# Altium footprint library L865_V4_PCB.PcbLib: 20 footprints (part 1 of 2)
Each footprint in its own frame and in the unit in brackets; x right, y up, seen from the top. Pads: shape width x height; smd on the part's side, far side on the other; paste and mask are expansions set on the pad; w line width, h text height; cw(c..) or ccw(c..) is an arc to the next point about the centre after c.
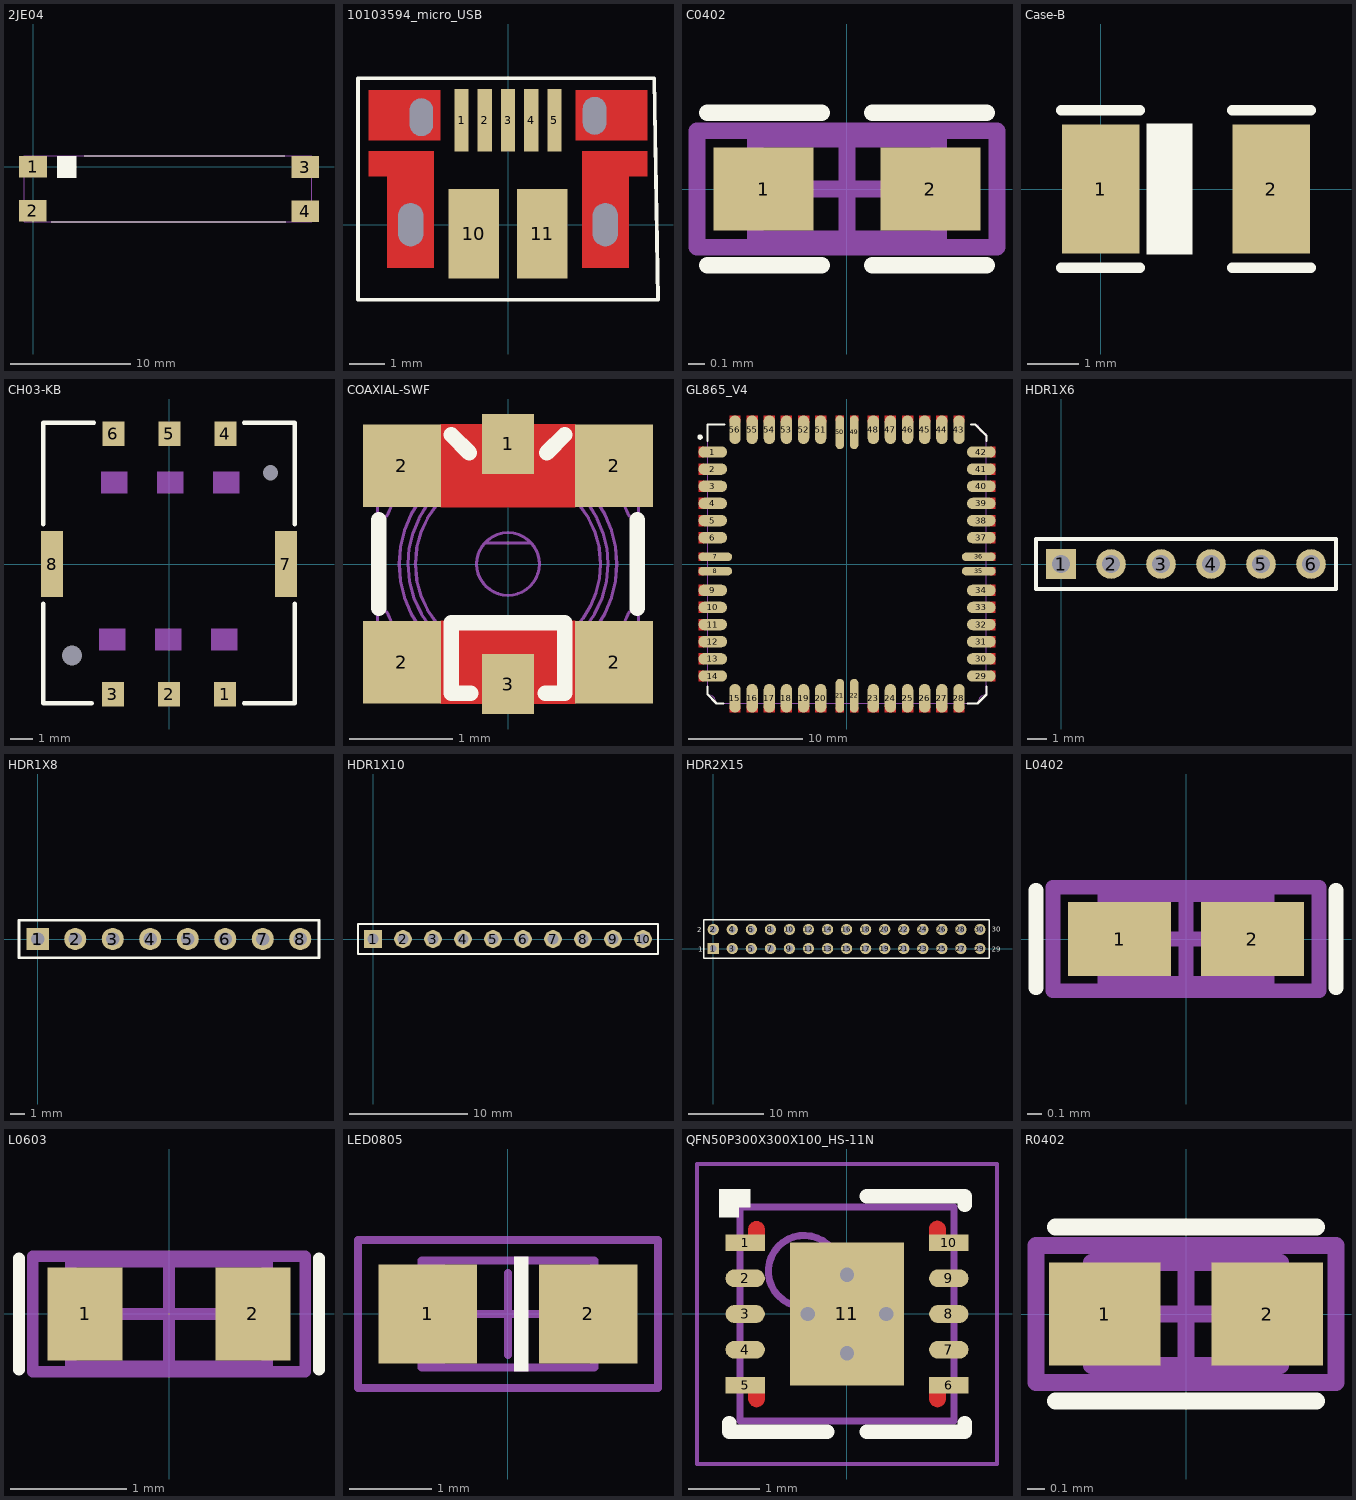
[diagram p0: the footprints below, top view; thin cyan lines are the x and y axes]

## 2JE04 [mm]
height 4.4
pads (4):
  rect 2.3x1.8 smd: 1(0,0) 2(-0.02,-3.69) 3(22.71,-0.03) 4(22.71,-3.73)
Top Overlay:
  rectangle: 2.01,-0.93 3.62,0.88
  lines w0.1: 1.5,-4.61 21.1,-4.61 ; 4.29,0.89 21.01,0.89
Mechanical 1:
  lines w0.1: -0.74,-4.61 -0.74,0.89 23.26,0.89 23.26,-4.61 -0.74,-4.61
3D body: height 4.4, standoff 0, extent -0.74,-4.61 23.26,0.89

## 10103594_micro_USB [mm]
height 2.99
pads (11):
  rect 0.4x1.75 smd: 1(-1.3,2.93) 2(-0.65,2.93) 3(0,2.93) 4(0.65,2.93) 5(1.3,2.93)
  round 0 hole 1.05 slot 0.65 at 0 deg: 6(-2.425,3.01) 7(2.425,3.05)
  round 0 hole 1.2 slot 0.7 at 0 deg: 8(-2.725,0) 9(2.725,0)
  rect 1.425x2.5 smd: 10(-0.96,-0.25) 11(0.96,-0.25)
Top Layer:
  region: -2.075,-1.2 -2.075,2.05 -3.905,2.05 -3.905,1.35 -3.375,1.35 -3.375,-1.2
  region: 2.075,-1.2 2.075,2.05 3.905,2.05 3.905,1.35 3.375,1.35 3.375,-1.2
  region: 3.9,2.36 1.9,2.36 1.9,3.76 3.9,3.76
  region: -3.9,3.76 -1.9,3.76 -1.9,2.36 -3.9,2.36
Top Overlay:
  lines w0.1: -4.2,-2.1 4.2,-2.1 4.097,4.1 -4.2,4.1 -4.2,-2.1
3D body "User Library-10103594.STEP": height 2.9, standoff -0.7, extent -4.03,-2.809 4.01,3.224

## C0402 [mm] "Chip Capacitor, 2-Leads, Body 1,0x0,5mm, IPC High Density"
height 0.6
pads (2):
  rect 0.6x0.5 smd: 1(-0.5,0) 2(0.5,0)
Top Overlay:
  lines w0.1: -0.838,-0.457 -0.152,-0.457 ; -0.838,0.457 -0.152,0.457 ; 0.152,-0.457 0.838,-0.457 ; 0.152,0.457 0.838,0.457
Mechanical 13:
  lines w0.1: -0.55,-0.3 0.55,-0.3 0.55,0.3 -0.55,0.3 -0.55,-0.3
Mechanical 15:
  lines w0.1: -0.3,0 0.3,0 ; 0,-0.3 0,0.3 ; -0.9,-0.35 0.9,-0.35 0.9,0.35 -0.9,0.35 -0.9,-0.35
3D body "SW3dPS-0402 SMD Capacitor.STEP": height 0.2, standoff 0, extent -0.5,-0.244 0.5,0.356

## Case-B [mm] "Tantalum capacitors standart case B"
height 2
pads (2):
  rect 1.5x2.5 smd: 1(0,0) 2(3.302,0)
Top Overlay:
  rectangle: 0.889,-1.27 1.778,1.27
  lines w0.2: -0.762,-1.524 0.762,-1.524 ; -0.762,1.524 0.762,1.524 ; 2.54,-1.524 4.064,-1.524 ; 2.54,1.524 4.064,1.524
3D body "Case B.STEP": height 2.14, standoff 0.04, extent -0.194,-1.397 3.496,1.423

## CH03-KB [mm] "Nano SIM Card Connector"
height 1.35
pads (10):
  rect 1x1.1 smd: 1(2.54,-5.9) 2(0,-5.9) 3(-2.54,-5.9) 4(2.56,5.91) 5(0.02,5.91) 6(-2.52,5.91)
  rect 1x3 smd: 7(5.3,0) 8(-5.3,0)
  round 0 hole 0.9 unplated: ""(-4.4,-4.15)
  round 0 hole 0.7 unplated: ""(4.6,4.15)
Top Overlay:
  lines w0.2: -5.7,-1.8 -5.7,-6.3 -3.5,-6.3 ; -5.7,1.8 -5.7,6.2 -5.7,6.4 -3.4,6.4 ; 3.4,-6.3 5.7,-6.3 5.7,-1.8 ; 3.4,6.4 5.7,6.4 5.7,1.8
Mechanical 1:
  region: 0.57,-2.92 -0.63,-2.92 -0.63,-3.92 0.57,-3.92
  region: -1.97,-2.92 -3.17,-2.92 -3.17,-3.92 -1.97,-3.92
  region: 3.11,-2.92 1.91,-2.92 1.91,-3.92 3.11,-3.92
  rectangle: -3.09,3.19 -1.89,4.19
  rectangle: 1.99,3.19 3.19,4.19
  rectangle: -0.55,3.19 0.65,4.19
3D body "CH03-KB060-HAR_rev1.1.STEP": height 1.35, standoff -0.4, extent -5.43,-6.1 5.41,6.1

## COAXIAL-SWF [mm]
pads (6):
  rect 0.5x0.58 smd: 1(0,1.16) 3(0,-1.16)
  rect 0.75x0.8 smd: 2(-1.025,-0.95) 2(-1.025,0.95) 2(1.025,-0.95) 2(1.025,0.95)
Top Layer:
  pour cut-out: 0.65,-0.55 -0.65,-0.55 -0.65,-1.35 0.65,-1.35
  pour cut-out: -0.65,0.55 0.65,0.55 0.65,1.35 -0.65,1.35
Top Overlay:
  lines w0.15: -1.25,-0.43 -1.25,0.43 ; -0.55,1.25 -0.375,1.075 ; -0.36,-1.25 -0.55,-1.25 -0.55,-0.57 0.55,-0.57 0.55,-1.25 0.36,-1.25 ; 0.375,1.075 0.55,1.25 ; 1.25,-0.43 1.25,0.43
Mechanical 7:
  drawing of 206 lines, arcs and shapes, not listed
  text ".Designator" at -0.236,-0.726 h0.7
3D body: height 1.55, standoff 1.25, extent -1.05,-1.05 1.05,1.05
3D body: height 1.25, standoff 0.95, extent -1.05,-1.049 1.05,1.05
3D body: height 0.9, standoff 0.6, extent -1.05,-1.049 1.05,1.05
3D body: height 0.55, standoff 0.1, extent -1.262,-1.252 1.262,1.253
3D body: height 0.6, standoff 0, extent -1.262,0.655 -0.757,1.248
3D body: height 0.6, standoff 0, extent -1.262,-1.25 -0.757,-0.649
3D body: height 0.6, standoff 0, extent 0.757,-1.246 1.262,-0.653
3D body: height 0.6, standoff 0, extent 0.757,0.655 1.262,1.249
3D body: height 0.95, standoff 0.75, extent -1,-0.999 1,1.001
3D body: height 0.75, standoff 0.6, extent -1.05,-1.049 1.05,1.05
3D body: height 1.4, standoff 0.6, extent -0.9,-0.9 0.9,0.901
3D body: height 0.6, standoff 0.55, extent -1.262,-1.248 1.262,1.251
3D body: height 0.15, standoff 0, extent -0.227,0.899 0.227,1.299
3D body: height 0.15, standoff 0, extent -0.227,-1.301 0.227,-0.758

## GL865_V4 [mm]
pads (56):
  oval 2.5x1 smd paste+0 mask+0.05: 1(-11.75,9.8) 2(-11.75,8.3) 3(-11.75,6.8) 4(-11.75,5.3) 5(-11.75,3.8) 6(-11.75,2.3) 9(-11.75,-2.3) 10(-11.75,-3.8) 11(-11.75,-5.3) 12(-11.75,-6.8) 13(-11.75,-8.3) 14(-11.75,-9.8) 29(11.75,-9.8) 30(11.75,-8.3) 31(11.75,-6.8) 32(11.75,-5.3) 33(11.75,-3.8) 34(11.75,-2.3) 37(11.75,2.3) 38(11.75,3.8) 39(11.75,5.3) 40(11.75,6.8) 41(11.75,8.3) 42(11.75,9.8)
  oval 2.95x0.75 smd paste+0 mask+0.05: 7(-11.525,0.625) 8(-11.525,-0.625) 35(11.525,-0.625) 36(11.525,0.625)
  oval 1x2.5 smd paste+0 mask+0.05: 15(-9.8,-11.75) 16(-8.3,-11.75) 17(-6.8,-11.75) 18(-5.3,-11.75) 19(-3.8,-11.75) 20(-2.3,-11.75) 23(2.3,-11.75) 24(3.8,-11.75) 25(5.3,-11.75) 26(6.8,-11.75) 27(8.3,-11.75) 28(9.8,-11.75) 43(9.8,11.75) 44(8.3,11.75) 45(6.8,11.75) 46(5.3,11.75) 47(3.8,11.75) 48(2.3,11.75) 51(-2.3,11.75) 52(-3.8,11.75) 53(-5.3,11.75) 54(-6.8,11.75) 55(-8.3,11.75) 56(-9.8,11.75)
  oval 0.75x2.95 smd paste+0 mask+0.05: 21(-0.625,-11.525) 22(0.625,-11.525) 49(0.625,11.525) 50(-0.625,11.525)
Top Layer:
  rectangle: 1.8,-13 2.8,-12.375
  rectangle: 4.8,-13 5.8,-12.375
  rectangle: 7.8,-13 8.8,-12.375
  rectangle: 9.3,-13 10.3,-12.375
  rectangle: 6.3,-13 7.3,-12.375
  rectangle: 3.3,-13 4.3,-12.375
  rectangle: -10.3,-13 -9.3,-12.375
  rectangle: -7.3,-13 -6.3,-12.375
  rectangle: -4.3,-13 -3.3,-12.375
  rectangle: -2.8,-13 -1.8,-12.375
  rectangle: -5.8,-13 -4.8,-12.375
  rectangle: -8.8,-13 -7.8,-12.375
  rectangle: 1.8,12.375 2.8,13
  rectangle: 4.8,12.375 5.8,13
  rectangle: 7.8,12.375 8.8,13
  rectangle: 9.3,12.375 10.3,13
  rectangle: 6.3,12.375 7.3,13
  rectangle: 3.3,12.375 4.3,13
  rectangle: -8.8,12.375 -7.8,13
  rectangle: -5.8,12.375 -4.8,13
  rectangle: -2.8,12.375 -1.8,13
  rectangle: -4.3,12.375 -3.3,13
  rectangle: -7.3,12.375 -6.3,13
  rectangle: -10.3,12.375 -9.3,13
  rectangle: 12.5,-2.8 13,-1.8
  rectangle: 12.5,-4.3 13,-3.3
  rectangle: 12.5,-7.3 13,-6.3
  rectangle: 12.5,-5.8 13,-4.8
  rectangle: 12.5,-10.3 13,-9.3
  rectangle: 12.5,-8.8 13,-7.8
  rectangle: 12.5,9.3 13,10.3
  rectangle: 12.5,7.8 13,8.8
  rectangle: 12.5,4.8 13,5.8
  rectangle: 12.5,6.3 13,7.3
  rectangle: 12.5,1.8 13,2.8
  rectangle: 12.5,3.3 13,4.3
  rectangle: -13,-2.8 -12.5,-1.8
  rectangle: -13,-4.3 -12.5,-3.3
  rectangle: -13,-7.3 -12.5,-6.3
  rectangle: -13,-5.8 -12.5,-4.8
  rectangle: -13,-10.3 -12.5,-9.3
  rectangle: -13,-8.8 -12.5,-7.8
  rectangle: -13,3.3 -12.5,4.3
  rectangle: -13,1.8 -12.5,2.8
  rectangle: -13,6.3 -12.5,7.3
  rectangle: -13,4.8 -12.5,5.8
  rectangle: -13,7.8 -12.5,8.8
  rectangle: -13,9.3 -12.5,10.3
  rectangle: 12.5,-1 13,-0.25
  rectangle: 12.5,0.25 13,1
  region: -0.25,12.5 -0.25,13 -1,13 -1,12.5
  region: 1,12.5 1,13 0.25,13 0.25,12.5
  region: -12.5,-0.25 -13,-0.25 -13,-1 -12.5,-1
  region: -12.5,1 -13,1 -13,0.25 -12.5,0.25
  region: 0.25,-12.5 0.25,-13 1,-13 1,-12.5
  region: -1,-12.5 -1,-13 -0.25,-13 -0.25,-12.5
Top Overlay:
  circle w0.254: c-12.86,11.11 r0.114
  lines w0.2: -12.21,-10.75 -12.21,-11.4 -11.41,-12.2 -10.82,-12.2 ; -12.2,10.77 -12.2,12.2 -10.72,12.2 ; 10.54,-12.2 11.43,-12.2 12.2,-11.43 12.2,-10.75 ; 10.87,12.2 11.23,12.2 12.2,11.23 12.2,10.77
Mechanical 1:
  lines w0.1: -12.2,12.2 -12.2,-11.45 cw(c-12.2,-12.2) -11.45,-12.2 11.45,-12.2 cw(c12.2,-12.2) 12.2,-11.45 12.2,11.45 cw(c12.2,12.2) 11.45,12.2
3D body "User Library-Telit  GL865-DUAL V3.STEP": height 2.56, standoff 0, extent -12.2,-12.2 12.2,12.2

## HDR1X6 [mm] "Connector; Header; 6 Position"
pads (6):
  rect 1.5x1.5 hole 0.9: 1(0,0)
  round 1.5 hole 0.9: 2(2.54,0) 3(5.08,0) 4(7.62,0) 5(10.16,0) 6(12.7,0)
Top Overlay:
  lines w0.2: -1.27,-1.27 -1.27,1.27 13.97,1.27 13.97,-1.27 -1.27,-1.27
3D body "User Library-SIL_Socket06_.STEP": height 8.5, standoff -10.46, extent -1.27,-1.27 13.97,1.27

## HDR1X8 [mm] "Connector; Header; 8 Position"
pads (8):
  rect 1.5x1.5 hole 0.9: 1(0,0)
  round 1.5 hole 0.9: 2(2.54,0) 3(5.08,0) 4(7.62,0) 5(10.16,0) 6(12.7,0) 7(15.24,0) 8(17.78,0)
Top Overlay:
  lines w0.2: -1.27,-1.27 -1.27,1.27 19.05,1.27 19.05,-1.27 -1.27,-1.27
3D body "User Library-SIL_Socket08_.STEP": height 8.5, standoff -10.46, extent -1.27,-1.27 19.05,1.27

## HDR1X10 [mm] "Connector; Header; 10 Position"
pads (10):
  rect 1.5x1.5 hole 0.9: 1(0,0)
  round 1.5 hole 0.9: 2(2.54,0) 3(5.08,0) 4(7.62,0) 5(10.16,0) 6(12.7,0) 7(15.24,0) 8(17.78,0) 9(20.32,0) 10(22.86,0)
Top Overlay:
  lines w0.2: -1.27,-1.27 24.13,-1.27 24.13,1.27 0.635,1.27 -1.27,1.27 -1.27,-1.27
3D body "User Library-SIL_Socket10_.STEP": height 8.5, standoff -10.46, extent -1.27,-1.27 24.13,1.27

## HDR2X15 [mm] "Connector; Header; 15x2 Position"
pads (30):
  rect 1.5x1.5 hole 0.9: 1(0,0)
  round 1.5 hole 0.9: 2(0,2.54) 3(2.54,0) 4(2.54,2.54) 5(5.08,0) 6(5.08,2.54) 7(7.62,0) 8(7.62,2.54) 9(10.16,0) 10(10.16,2.54) 11(12.7,0) 12(12.7,2.54) 13(15.24,0) 14(15.24,2.54) 15(17.78,0) 16(17.78,2.54) 17(20.32,0) 18(20.32,2.54) 19(22.86,0) 20(22.86,2.54) 21(25.4,0) 22(25.4,2.54) 23(27.94,0) 24(27.94,2.54) 25(30.48,0) 26(30.48,2.54) 27(33.02,0) 28(33.02,2.54) 29(35.56,0) 30(35.56,2.54)
Top Overlay:
  lines w0.2: -1.27,-1.27 -1.27,3.81 36.83,3.81 36.83,-1.27 -1.27,-1.27
  text "30" at 37.13,2.23 h0.7
  text "29" at 37.1,-0.42 h0.7
  text "2" at -2.165,2.153 h0.7
  text "1" at -2,-0.4 h0.7

## L0402 [mm] "Chip Inductor, 2-Leads, Body 1,0x0,5mm, IPC High Density"
height 0.6
pads (2):
  rect 0.7x0.5 smd: 1(-0.45,0) 2(0.45,0)
Top Overlay:
  lines w0.1: -1.016,-0.33 -1.016,0.33 ; 1.016,-0.33 1.016,0.33
Mechanical 13:
  lines w0.1: -0.55,-0.3 -0.55,0.3 0.55,0.3 0.55,-0.3 -0.55,-0.3
Mechanical 15:
  lines w0.1: -0.3,0 0.3,0 ; 0,-0.3 0,0.3 ; -0.9,-0.35 -0.9,0.35 0.9,0.35 0.9,-0.35 -0.9,-0.35
3D body "inductor_0402.STEP": height 0.25, standoff 0, extent -0.49,-0.25 0.51,0.25

## L0603 [mm] "Chip Inductor, 2-Leads, Body 1,6x0,8mm, IPC High Density"
height 1
pads (2):
  rect 0.65x0.8 smd: 1(-0.725,0) 2(0.725,0)
Top Overlay:
  lines w0.1: -1.295,-0.483 -1.295,0.483 ; 1.295,-0.483 1.295,0.483
Mechanical 13:
  lines w0.1: -0.85,-0.45 -0.85,0.45 0.85,0.45 0.85,-0.45 -0.85,-0.45
Mechanical 15:
  lines w0.1: -0.45,0 0.45,0 ; 0,-0.45 0,0.45 ; -1.175,-0.5 -1.175,0.5 1.175,0.5 1.175,-0.5 -1.175,-0.5
3D body: height 1, standoff 0, extent -0.85,-0.45 0.85,0.45

## LED0805 [mm] "LED, 2-Leads, Body 2,0x1,3mm, IPC Medium Density"
height 1
pads (2):
  rect 1.2x1.2 smd: 1(-0.975,0) 2(0.975,0)
Top Overlay:
  rectangle: 0.07,-0.7 0.25,0.7
Mechanical 13:
  rectangle: -1.05,-0.65 -0.768,0.65
  lines w0.1: -1.05,-0.65 1.05,-0.65 1.05,0.65 -1.05,0.65 -1.05,-0.65
Mechanical 15:
  lines w0.1: -0.5,0 0.5,0 ; 0,-0.5 0,0.5 ; -1.825,-0.9 1.825,-0.9 1.825,0.9 -1.825,0.9 -1.825,-0.9
3D body "SW3dPS-led805.STEP": height 1.1, standoff -0.01, extent -1.016,-0.66 1.016,0.61

## QFN50P300X300X100_HS-11N [mm] "QFN, 10-Leads, Body 3,00x3,00mm, Pitch 0,50mm, Thermal Pad 1,60x2,00mm, IPC Medium Density"
height 1
pads (11):
  rect 0.55x0.23 smd: 1(-1.425,1) 5(-1.425,-1) 6(1.425,-1) 10(1.425,1)
  oval 0.55x0.25 smd: 2(-1.425,0.5) 3(-1.425,0) 4(-1.425,-0.5) 7(1.425,-0.5) 8(1.425,0) 9(1.425,0.5)
  rect 1.6x2 smd: 11(0,0)
via 0.55,0 diameter 0.4 hole 0.2
via -0.55,0 diameter 0.4 hole 0.2
via 0,-0.55 diameter 0.4 hole 0.2
via 0,0.55 diameter 0.4 hole 0.2
Top Layer:
  region: -1.382,-1.189 -1.382,-1.003 -1.382,-0.991 -1.378,-0.969 -1.369,-0.948 -1.357,-0.929 -1.349,-0.921 -1.341,-0.913 -1.322,-0.901 -1.302,-0.892 -1.28,-0.888 -1.268,-0.888 -1.257,-0.888 -1.235,-0.892 -1.215,-0.9 -1.196,-0.913 -1.188,-0.921 -1.18,-0.929 -1.167,-0.948 -1.157,-0.969 -1.153,-0.992 -1.152,-1.004 -1.153,-1.186 -1.152,-1.198 -1.157,-1.221 -1.166,-1.242 -1.179,-1.262 -1.187,-1.27 -1.195,-1.278 -1.213,-1.29 -1.233,-1.298 -1.255,-1.302 -1.266,-1.302 -1.276,-1.303 -1.296,-1.299 -1.316,-1.292 -1.333,-1.282 -1.341,-1.275 -1.35,-1.267 -1.365,-1.247 -1.376,-1.225 -1.382,-1.201
  region: 1.152,-1.19 1.152,-1.003 1.152,-0.992 1.156,-0.97 1.165,-0.949 1.177,-0.93 1.185,-0.922 1.193,-0.914 1.212,-0.902 1.232,-0.893 1.254,-0.889 1.266,-0.889 1.277,-0.889 1.299,-0.893 1.319,-0.901 1.338,-0.914 1.346,-0.921 1.354,-0.93 1.367,-0.949 1.377,-0.97 1.381,-0.993 1.381,-1.005 1.381,-1.187 1.381,-1.198 1.377,-1.221 1.368,-1.243 1.355,-1.262 1.347,-1.271 1.339,-1.279 1.321,-1.291 1.301,-1.299 1.279,-1.303 1.268,-1.303 1.258,-1.303 1.238,-1.3 1.218,-1.293 1.201,-1.283 1.193,-1.276 1.184,-1.268 1.169,-1.248 1.158,-1.226 1.152,-1.202
  region: 1.15,1.004 1.15,1.19 1.15,1.202 1.154,1.224 1.163,1.245 1.175,1.264 1.183,1.272 1.191,1.28 1.21,1.292 1.23,1.301 1.252,1.305 1.264,1.305 1.275,1.305 1.297,1.301 1.317,1.293 1.336,1.28 1.344,1.273 1.352,1.264 1.365,1.245 1.375,1.224 1.379,1.201 1.38,1.189 1.38,1.007 1.38,0.996 1.375,0.973 1.366,0.951 1.353,0.931 1.345,0.923 1.337,0.915 1.319,0.903 1.299,0.895 1.277,0.891 1.266,0.891 1.256,0.891 1.236,0.894 1.217,0.901 1.199,0.911 1.191,0.918 1.182,0.926 1.167,0.946 1.156,0.968 1.15,0.992
  region: -1.381,0.999 -1.381,1.185 -1.381,1.196 -1.377,1.219 -1.368,1.24 -1.355,1.258 -1.347,1.266 -1.34,1.274 -1.321,1.287 -1.3,1.296 -1.278,1.3 -1.267,1.3 -1.256,1.3 -1.234,1.296 -1.213,1.287 -1.195,1.275 -1.187,1.267 -1.179,1.259 -1.165,1.24 -1.156,1.218 -1.151,1.196 -1.151,1.184 -1.151,1.002 -1.151,0.99 -1.156,0.967 -1.165,0.946 -1.178,0.926 -1.186,0.918 -1.194,0.91 -1.212,0.898 -1.232,0.89 -1.254,0.885 -1.265,0.885 -1.275,0.885 -1.295,0.889 -1.314,0.896 -1.332,0.906 -1.34,0.913 -1.349,0.921 -1.364,0.941 -1.374,0.963 -1.38,0.987
Top Overlay:
  rectangle: -1.79,1.49 -1.35,1.75
  rectangle: -1.79,1.35 -1.51,1.75
  lines w0.2: -1.65,-1.525 -1.65,-1.65 -0.275,-1.65 ; 0.275,-1.65 1.65,-1.65 1.65,-1.525 ; 0.275,1.65 1.65,1.65 1.65,1.525
Mechanical 13:
  circle w0.1: c-0.6,0.6 r0.5
  lines w0.1: -1.5,-1.5 1.5,-1.5 1.5,1.5 -1.5,1.5 -1.5,-1.5
Mechanical 15:
  lines w0.05: -2.1,-2.1 2.1,-2.1 2.1,2.1 -2.1,2.1 -2.1,-2.1
  lines w0.1: -0.5,0 0.5,0 ; 0,-0.5 0,0.5
3D body "User Library-DFN10-1.STEP": height 0.8, standoff 0, extent -1.509,-1.507 1.511,1.493

## R0402 [mm] "Chip resistor 0402"
height 0.6
pads (2):
  rect 0.65x0.6 smd: 1(-0.475,0) 2(0.475,0)
Top Overlay:
  lines w0.1: -0.762,-0.508 0.762,-0.508 ; -0.762,0.508 0.762,0.508
Mechanical 13:
  lines w0.1: -0.55,-0.3 0.55,-0.3 0.55,0.3 -0.55,0.3 -0.55,-0.3
Mechanical 15:
  lines w0.1: -0.3,0 0.3,0 ; 0,-0.3 0,0.3 ; -0.875,-0.4 0.875,-0.4 0.875,0.4 -0.875,0.4 -0.875,-0.4
3D body "SW3dPS-0402 SMD Resistor.STEP": height 0.2, standoff 0, extent -0.5,-0.3 0.5,0.3